# EAGLE library part 2X2-OPT3002 (library TIcustom)
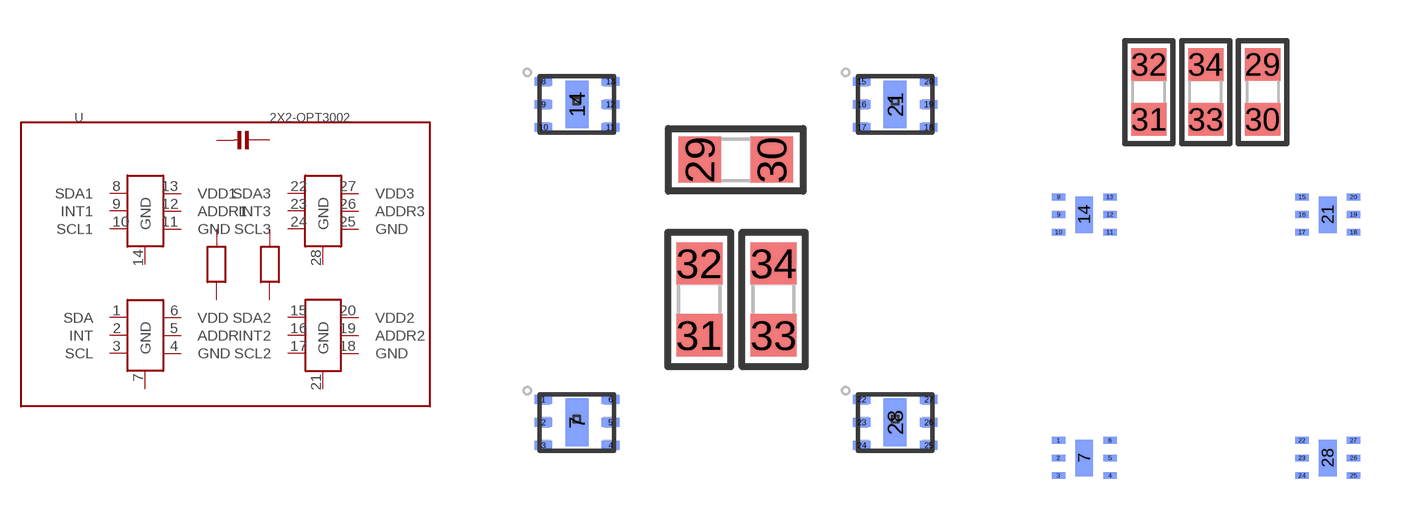
[diagram p2: symbol with the pads of 2X2-OPT3002; footprints 2X2-OPT3002, 2X2-OPT3002-2]

Designator prefix -

## 2X2-OPT30021  [2X2-OPT3002]
1  SDA
2  INT
3  SCL
4  GND
5  ADDR
6  VDD
7  GND
8  SDA1
9  INT1
10  SCL1
11  GND
12  ADDR1
13  VDD1
14  GND
15  SDA2
16  INT2
17  SCL2
18  GND
19  ADDR2
20  VDD2
21  GND
22  SDA3
23  INT3
24  SCL3
25  GND
26  ADDR3
27  VDD3
28  GND
29  C+  pas
30  GND  pas
31  R1+  pas
32  GND  pas
33  R2+  pas
34  GND  pas

## 2X2-OPT30022  [2X2-OPT3002-2]
Pads as for 2X2-OPT3002

## Footprint 2X2-OPT3002 (pad centres in mm)
smd 0.5 x 0.25 bottom: 1 -0.95,0.56; 2 -0.95,-0.09; 3 -0.95,-0.74; 4 0.95,-0.74; 5 0.95,-0.09; 6 0.95,0.56; 8 -0.95,9.56; 9 -0.95,8.91; 10 -0.95,8.26; 11 0.95,8.26; 12 0.95,8.91; 13 0.95,9.56; 15 8.05,9.56; 16 8.05,8.91; 17 8.05,8.26; 18 9.95,8.26; 19 9.95,8.91; 20 9.95,9.56; 22 8.05,0.56; 23 8.05,-0.09; 24 8.05,-0.74; 25 9.95,-0.74; 26 9.95,-0.09; 27 9.95,0.56
smd 0.65 x 1.35 bottom: 7 0,-0.09; 14 0,8.91; 21 9,8.91; 28 9,-0.09
smd 1.2 x 1.3: 29 3.474,7.34; 30 5.506,7.34
smd 1.3 x 1.2: 31 3.46,2.374; 32 3.46,4.406; 33 5.56,2.374; 34 5.56,4.406

## Footprint 2X2-OPT3002-2 (pad centres in mm)
smd 0.5 x 0.25 bottom: 1 -0.95,0.56; 2 -0.95,-0.09; 3 -0.95,-0.74; 4 0.95,-0.74; 5 0.95,-0.09; 6 0.95,0.56; 8 -0.95,9.56; 9 -0.95,8.91; 10 -0.95,8.26; 11 0.95,8.26; 12 0.95,8.91; 13 0.95,9.56; 15 8.05,9.56; 16 8.05,8.91; 17 8.05,8.26; 18 9.95,8.26; 19 9.95,8.91; 20 9.95,9.56; 22 8.05,0.56; 23 8.05,-0.09; 24 8.05,-0.74; 25 9.95,-0.74; 26 9.95,-0.09; 27 9.95,0.56
smd 0.65 x 1.35 bottom: 7 0,-0.09; 14 0,8.91; 21 9,8.91; 28 9,-0.09
smd 1.3 x 1.2: 29 6.59,14.456; 30 6.59,12.424; 31 2.39,12.424; 32 2.39,14.456; 33 4.49,12.424; 34 4.49,14.456